# Altium footprint library L SMD.PcbLib: 31 footprints (part 1 of 2)
Each footprint in its own frame and in the unit in brackets; x right, y up, seen from the top. Pads: shape width x height; smd on the part's side, far side on the other; paste and mask are expansions set on the pad; w line width, h text height; cw(c..) or ccw(c..) is an arc to the next point about the centre after c.
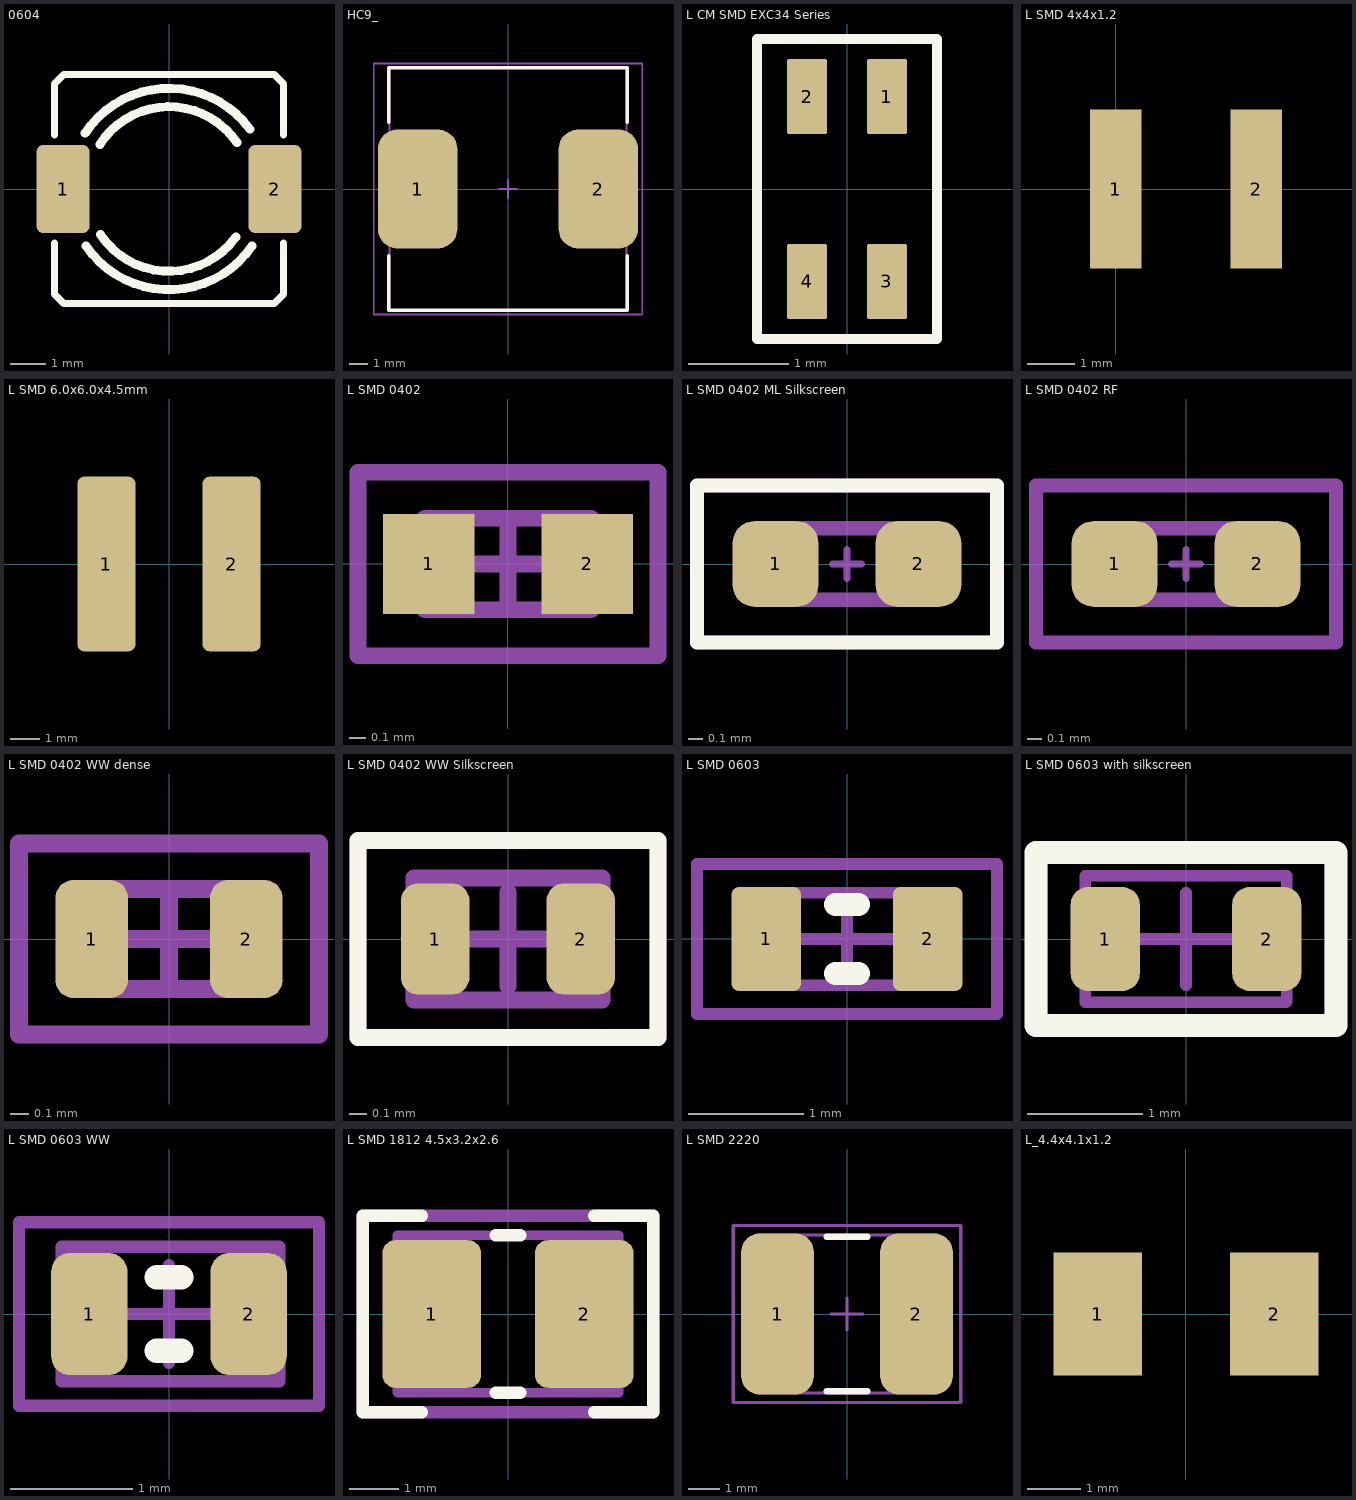
[diagram p0: the footprints below, top view; thin cyan lines are the x and y axes]

## 0604 [mm] "0604"
height 4.8
pads (2):
  rrect25% 1.5x2.5 smd: 1(-3,0) 2(3,0)
Top Overlay:
  lines w0.2: -3.25,-1.525 -3.25,-2.973 -2.973,-3.25 2.973,-3.25 3.25,-2.973 3.25,-1.525 ; -3.25,1.525 -3.25,2.973 -2.973,3.25 2.973,3.25 3.25,2.973 3.25,1.525
  lines w0.254: -2.375,1.583 cw(c0,0) 2.298,1.693 ; -2.355,-1.612 ccw(c0,0) 2.355,-1.612 ; -1.961,1.261 cw(c0,0) 1.921,1.321 ; -1.94,-1.293 ccw(c0,0) 1.897,-1.355
3D body: height 4.8, standoff 0, extent -3.25,-3.25 3.25,3.25

## HC9_ [mm] "Precision Wire Wound Inductor, 2-Leads, Body 13,1x13,4mm, IPC Medium Density"
height 7.5
pads (2):
  rrect50% 4.4x6.6 smd: 1(-5,0) 2(5,0)
Top Overlay:
  lines w0.2: -6.6,-3.7 -6.6,-6.7 6.6,-6.7 6.6,-3.7 ; -6.6,3.7 -6.6,6.7 6.6,6.7 6.6,3.7
Mechanical 13:
  lines w0.1: -6.55,-6.7 -6.55,6.7 6.55,6.7 6.55,-6.7 -6.55,-6.7
Mechanical 15:
  lines w0.1: -0.5,0 0.5,0 ; 0,-0.5 0,0.5 ; -7.425,-6.95 -7.425,6.95 7.425,6.95 7.425,-6.95 -7.425,-6.95
3D body: height 6.7, standoff 0, extent -6.2,-6.25 6.3,6.25

## L CM SMD EXC34 Series [mm] "L CM SMD EXC34 Series"
height 0.5
pads (4):
  rrect10% 0.4x0.75 smd: 1(0.4,0.925) 2(-0.4,0.925) 3(0.4,-0.925) 4(-0.4,-0.925)
Top Overlay:
  lines w0.1: -0.9,-1.5 -0.9,1.5 0.9,1.5 0.9,-1.5 -0.9,-1.5
3D body: height 0.5, standoff 0, extent -0.625,-1 0.625,1

## L SMD 4x4x1.2 [mm]
pads (2):
  rect 1.1x3.4 smd: 1(0,0) 2(3,0)
3D body: height 1.2, standoff 0, extent -0.5,-2 3.5,2

## L SMD 6.0x6.0x4.5mm [mm]
height 4.5
pads (2):
  rrect25% 2x6 smd: 1(-2.15,0) 2(2.15,0)

## L SMD 0402 [mm]
height 0.6
pads (2):
  rect 0.55x0.6 smd: 1(-0.475,0) 2(0.475,0)
Mechanical 13:
  lines w0.1: -0.5,-0.275 -0.5,0.275 0.5,0.275 0.5,-0.275 -0.5,-0.275
Mechanical 15:
  lines w0.1: -0.275,0 0.275,0 ; 0,-0.275 0,0.275 ; -0.9,-0.55 -0.9,0.55 0.9,0.55 0.9,-0.55 -0.9,-0.55
3D body: height 0.6, standoff -0.01, extent -0.548,-0.355 0.548,0.356

## L SMD 0402 ML Silkscreen [mm]
height 0.6
pads (2):
  rrect50% 0.6x0.6 smd: 1(-0.5,0) 2(0.5,0)
Top Overlay:
  lines w0.1: -1.05,-0.55 -1.05,0.55 1.05,0.55 1.05,-0.55 -1.05,-0.55
Mechanical 13:
  lines w0.102: -0.5,-0.25 -0.5,0.25 0.5,0.25 0.5,-0.25 -0.5,-0.25
Mechanical 15:
  lines w0.05: -0.1,0 0.1,0 ; 0,-0.1 0,0.1
  lines w0.1: -1.05,-0.55 -0.525,-0.55 1.05,-0.55 1.05,0 1.05,0.55 0.5,0.55 -1.05,0.55 -1.05,0 -1.05,-0.55
3D body: height 0.5, standoff 0, extent -0.5,-0.25 0.5,0.25

## L SMD 0402 RF [mm]
height 0.6
pads (2):
  rrect50% 0.6x0.6 smd: 1(-0.5,0) 2(0.5,0)
Mechanical 13:
  lines w0.102: -0.5,-0.25 -0.5,0.25 0.5,0.25 0.5,-0.25 -0.5,-0.25
Mechanical 15:
  lines w0.05: -0.1,0 0.1,0 ; 0,-0.1 0,0.1
  lines w0.1: -1.05,-0.55 -0.525,-0.55 1.05,-0.55 1.05,0 1.05,0.55 0.5,0.55 -1.05,0.55 -1.05,0 -1.05,-0.55
3D body: height 0.5, standoff 0, extent -0.5,-0.25 0.5,0.25

## L SMD 0402 WW dense [mm] "Wirewound RF inductor 0402, 0.25mm to M15"
height 0.5
pads (2):
  rrect50% 0.4x0.65 smd: 1(-0.425,0) 2(0.425,0)
Mechanical 13:
  lines w0.1: -0.5,-0.275 -0.5,0.275 0.5,0.275 0.5,-0.275 -0.5,-0.275
Mechanical 15:
  lines w0.1: -0.275,0 0.275,0 ; 0,-0.275 0,0.275 ; -0.825,-0.525 -0.825,0.525 0.825,0.525 0.825,-0.525 -0.825,-0.525
3D body: height 0.6, standoff -0.01, extent -0.548,-0.355 0.548,0.356

## L SMD 0402 WW Silkscreen [mm] "Wirewound RF inductor with silkscreen 0402"
height 0.6
pads (2):
  rrect50% 0.4x0.65 smd: 1(-0.425,0) 2(0.425,0)
Top Overlay:
  lines w0.1: -0.875,-0.575 0.875,-0.575 0.875,0.575 -0.875,0.575 -0.875,-0.575
Mechanical 13:
  lines w0.1: -0.548,-0.356 0.548,-0.356 0.548,0.355 -0.548,0.355 -0.548,-0.356
Mechanical 15:
  lines w0.1: -0.275,0 0.275,0 ; 0,-0.275 0,0.275 ; -0.875,-0.575 0.875,-0.575 0.875,0.575 -0.875,0.575 -0.875,-0.575
3D body: height 0.6, standoff -0.01, extent -0.548,-0.356 0.548,0.355

## L SMD 0603 [mm] "L SMD 0603"
height 0.8
pads (2):
  rrect20% 0.6x0.9 smd: 1(-0.7,0) 2(0.7,0)
Top Overlay:
  lines w0.2: -0.1,-0.3 0.1,-0.3 ; -0.1,0.3 0.1,0.3
Mechanical 13:
  lines w0.1: -0.8,-0.4 -0.8,0.4 0.8,0.4 0.8,-0.4 -0.8,-0.4
Mechanical 15:
  lines w0.1: -0.4,0 0.4,0 ; 0,-0.4 0,0.4 ; -1.3,-0.65 -1.3,0.65 1.3,0.65 1.3,-0.65 -1.3,-0.65
3D body: height 0.95, standoff 0, extent -0.8,-0.4 0.8,0.4

## L SMD 0603 with silkscreen [mm] "L SMD 0603"
height 0.8
pads (2):
  rrect50% 0.6x0.9 smd: 1(-0.7,0) 2(0.7,0)
Top Overlay:
  lines w0.2: -1.3,-0.75 1.3,-0.75 1.3,0.75 -1.3,0.75 -1.3,-0.75
Mechanical 13:
  lines w0.1: -0.875,-0.55 -0.875,0.55 0.875,0.55 0.875,-0.545 0.87,-0.55 -0.875,-0.55
Mechanical 15:
  lines w0.1: -0.4,0 0.4,0 ; 0,-0.4 0,0.4 ; -1.25,-0.7 1.25,-0.7 1.25,0.7 -1.25,0.7 -1.25,-0.7
3D body: height 0.93, standoff -0.01, extent -0.875,-0.545 0.875,0.545

## L SMD 0603 WW [mm] "L SMD 0603 WireWound"
height 1.1
pads (2):
  rrect50% 0.625x1 smd: 1(-0.65,0) 2(0.65,0)
Top Overlay:
  lines w0.2: -0.1,-0.3 0.1,-0.3 ; -0.1,0.3 0.1,0.3
Mechanical 13:
  lines w0.1: -0.875,-0.55 -0.875,0.55 0.9,0.55 0.9,-0.55 -0.875,-0.55
Mechanical 15:
  lines w0.1: -0.4,0 0.4,0 ; 0,-0.4 0,0.4 ; -1.225,-0.75 -1.225,0.75 1.225,0.75 1.225,-0.75 -1.225,-0.75
3D body: height 0.93, standoff -0.01, extent -0.875,-0.545 0.875,0.545

## L SMD 1812 4.5x3.2x2.6 [mm] "L SMD 1812 4.5x3.2x2.6"
height 2.6
pads (2):
  rrect25% 2x3 smd: 1(-1.55,0) 2(1.55,0)
Top Overlay:
  lines w0.254: -1.75,-2 -2.95,-2 -2.95,2 -1.75,2 ; -0.25,-1.6 0.25,-1.6 ; -0.25,1.6 0.25,1.6 ; 1.75,-2 2.95,-2 2.95,2 1.75,2
Mechanical 13:
  lines w0.2: -2.25,-1.6 2.25,-1.6 2.25,1.6 -2.25,1.6 -2.25,-1.6
Mechanical 15:
  lines w0.254: -2.95,-2 2.95,-2 2.95,2 0,2 -2.95,2 -2.95,-2
3D body: height 2.6, standoff 0, extent -2.25,-1.6 2.25,1.6

## L SMD 2220 [mm]
height 5
pads (2):
  rrect50% 2.3x5.1 smd: 1(-2.2,0) 2(2.2,0)
Top Overlay:
  lines w0.2: -0.65,-2.45 0.65,-2.45 ; -0.65,2.45 0.65,2.45
Mechanical 13:
  lines w0.1: -2.85,-2.5 2.85,-2.5 2.85,2.5 -2.85,2.5 -2.85,-2.5
Mechanical 15:
  lines w0.1: -0.5,0 0.5,0 ; 0,-0.5 0,0.5 ; -3.6,-2.8 3.6,-2.8 3.6,2.8 -3.6,2.8 -3.6,-2.8
3D body: height 5, standoff 0, extent -2.85,-2.5 2.85,2.5

## L_4.4x4.1x1.2 [mm] "Land pattern, mm: H=2.3, W=1.65, D=1.65"
pads (2):
  rect 1.65x2.3 smd: 1(-1.65,0) 2(1.65,0)
3D body: height 1.2, standoff 0, extent -2.2,-2.05 2.2,2.05